# EAGLE library part LTC3105 (library ee_projects)
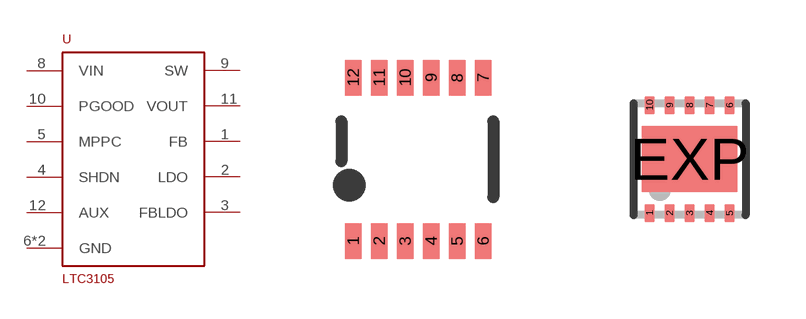
[diagram p14: symbol with the pads of MSOP12; footprints MSOP12, DFN10-3X3]

Designator prefix -

## LTC3105  [MSOP12]
1  FB
2  LDO
3  FBLDO
4  SHDN
5  MPPC
6  GND
7  GND
8  VIN
9  SW
10  PGOOD
11  VOUT
12  AUX

## LTC3105DFN  [DFN10-3X3]
1  FB
2  LDO
3  FBLDO
4  SHDN
5  MPPC
6  VIN
7  SW
8  PGOOD
9  VOUT
10  AUX
EXP  GND

## Footprint MSOP12 (pad centres in mm)
smd 0.42 x 0.889: 1 0,-1.27; 2 0.65,-1.27; 3 1.3,-1.27; 4 1.95,-1.27; 5 2.6,-1.27; 6 3.25,-1.27; 7 3.25,2.82; 8 2.6,2.82; 9 1.95,2.82; 10 1.3,2.82; 11 0.65,2.82; 12 0,2.82

## Footprint DFN10-3X3 (pad centres in mm)
DD Package 10-Lead Plastic DFN (3mm × 3mm) (Reference LTC DWG # 05-08-1669) Source: http://www.linear.com .. 4062fa.pdf
smd 0.25 x 0.45: 1 -1,-1.35; 2 -0.5,-1.35; 3 0,-1.35; 4 0.5,-1.35; 5 1,-1.35; 6 1,1.35; 7 0.5,1.35; 8 0,1.35; 9 -0.5,1.35; 10 -1,1.35
smd 2.38 x 1.65: EXP 0,0